# Altium footprint library QFN-32-1.PcbLib: 1 footprints
Each footprint in its own frame and in the unit in brackets; x right, y up, seen from the top. Pads: shape width x height; smd on the part's side, far side on the other; paste and mask are expansions set on the pad; w line width, h text height; cw(c..) or ccw(c..) is an arc to the next point about the centre after c.
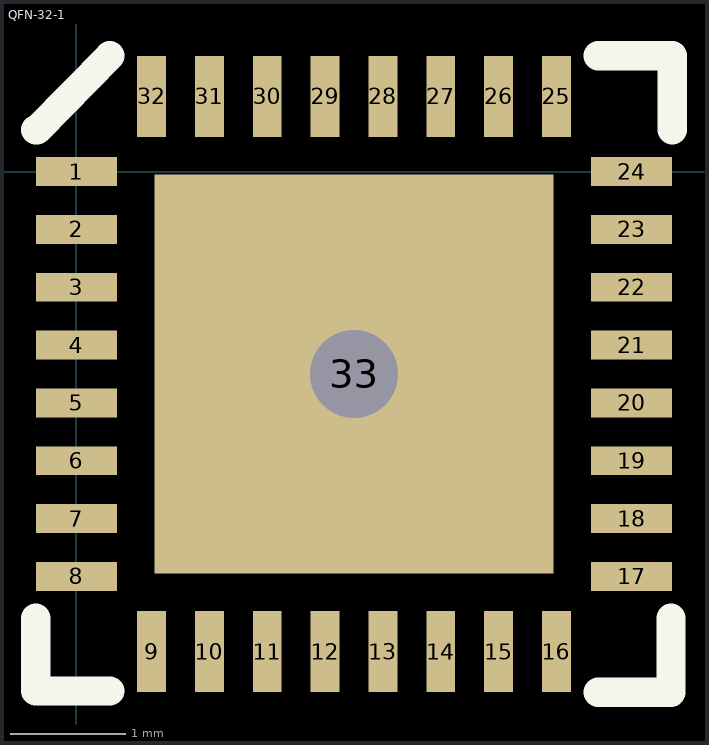
[diagram p0: the footprint, top view; thin cyan lines are the x and y axes]

## QFN-32-1 [mm]
pads (34):
  rect 0.7x0.25 smd: 1(0,0) 2(0,-0.5) 3(0,-1) 4(0,-1.5) 5(0,-2) 6(0,-2.5) 7(0,-3) 8(0,-3.5) 17(4.8,-3.5) 18(4.8,-3) 19(4.8,-2.5) 20(4.8,-2) 21(4.8,-1.5) 22(4.8,-1) 23(4.8,-0.5) 24(4.8,0)
  rect 0.25x0.7 smd: 9(0.65,-4.15) 10(1.15,-4.15) 11(1.65,-4.15) 12(2.15,-4.15) 13(2.65,-4.15) 14(3.15,-4.15) 15(3.65,-4.15) 16(4.15,-4.15) 25(4.15,0.65) 26(3.65,0.65) 27(3.15,0.65) 28(2.65,0.65) 29(2.15,0.65) 30(1.65,0.65) 31(1.15,0.65) 32(0.65,0.65)
  rect 3.45x3.45 smd: 33(2.4,-1.75)
  round 0 hole 0.762: 33(2.4,-1.75)
TopOverlay:
  lines w0.254: -0.35,-3.86 -0.35,-4.49 0.29,-4.49 ; -0.35,0.36 -0.34,0.36 0.29,1 ; 4.51,-4.5 5.14,-4.5 5.14,-3.86 ; 4.51,1 5.15,1 5.15,0.36
  text "." at -0.53,0.94 h1.52
3D body: height 0.7, standoff -0.05, extent -0.1,-4.25 4.905,0.75